# Altium footprint library 矩形板V6.0(可制造).PcbLib: 35 footprints (part 2 of 3)
Each footprint in its own frame and in the unit in brackets; x right, y up, seen from the top. Pads: shape width x height; smd on the part's side, far side on the other; paste and mask are expansions set on the pad; w line width, h text height; cw(c..) or ccw(c..) is an arc to the next point about the centre after c.
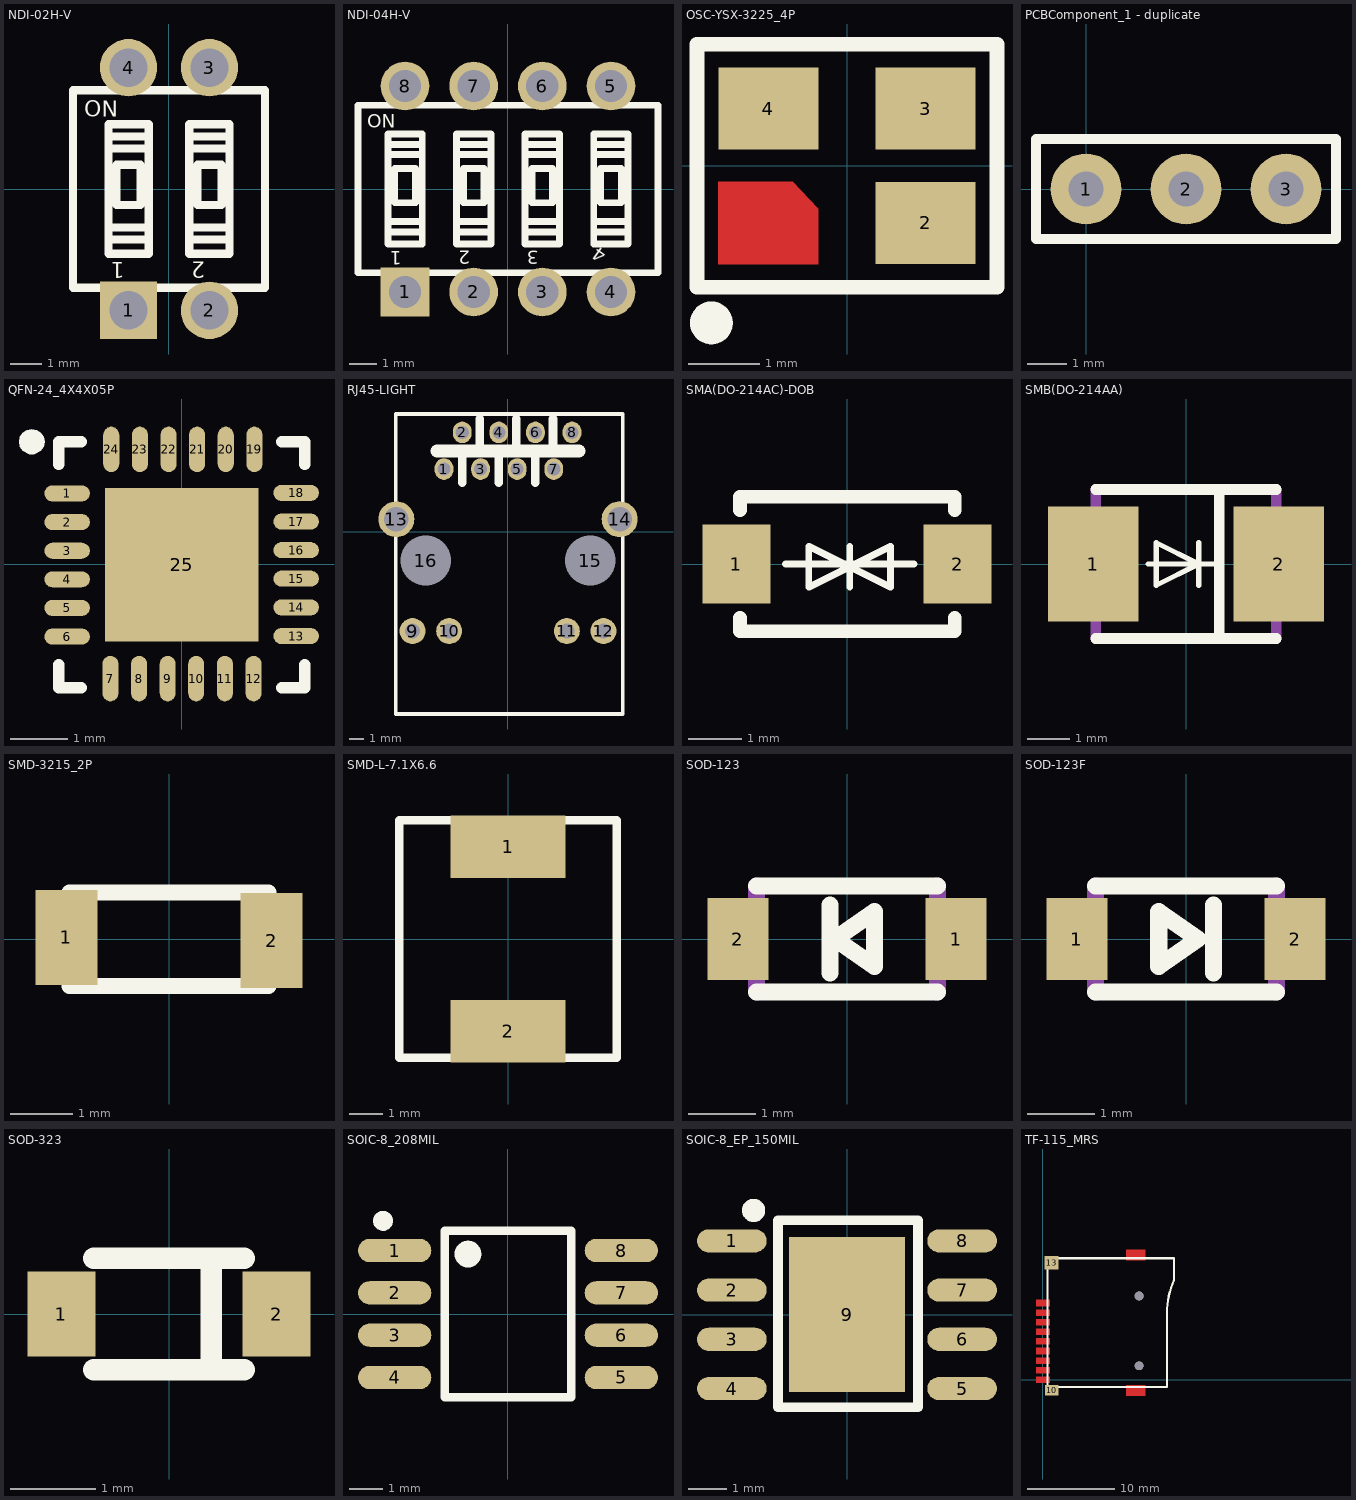
[diagram p1: the footprints below, top view; thin cyan lines are the x and y axes]

## NDI-02H-V [mm]
pads (4):
  rect 1.8x1.8 hole 1.2: 1(-1.27,-3.81)
  round 1.8 hole 1.2: 2(1.27,-3.81) 3(1.27,3.81) 4(-1.27,3.81)
Top Overlay:
  lines w0.254: -1.905,-1.587 -0.635,-1.587 ; -1.905,-1.206 -0.635,-1.206 ; -1.905,1.27 -0.635,1.27 ; -1.905,1.651 -0.635,1.651 ; 0.635,-1.587 1.905,-1.587 ; 0.635,-1.206 1.905,-1.206 ; 0.635,1.27 1.905,1.27 ; 0.635,1.651 1.905,1.651 ; -3.01,-3.1 -3.01,3.1 3.01,3.1 3.01,-3.1 -3.01,-3.1 ; -1.905,-2.032 -1.905,2.032 -0.635,2.032 -0.635,-2.032 -1.905,-2.032 ; -1.651,-0.508 -1.651,0.762 -0.889,0.762 -0.889,-0.508 -1.651,-0.508 ; 0.635,-2.032 0.635,2.032 1.905,2.032 1.905,-2.032 0.635,-2.032 ; 0.889,-0.508 0.889,0.762 1.651,0.762 1.651,-0.508 0.889,-0.508
  text "2" at 1.143,-2.29 h0.5
  text "1" at -1.397,-2.308 h0.5
  text "ON" at -2.667,2.272 h0.5

## NDI-04H-V [mm]
pads (8):
  rect 1.8x1.8 hole 1.2: 1(-3.81,-3.81)
  round 1.8 hole 1.2: 2(-1.27,-3.81) 3(1.27,-3.81) 4(3.81,-3.81) 5(3.81,3.81) 6(1.27,3.81) 7(-1.27,3.81) 8(-3.81,3.81)
Top Overlay:
  lines w0.254: -4.445,-1.587 -3.175,-1.587 ; -4.445,-1.206 -3.175,-1.206 ; -4.445,1.27 -3.175,1.27 ; -4.445,1.651 -3.175,1.651 ; -1.905,-1.587 -0.635,-1.587 ; -1.905,-1.206 -0.635,-1.206 ; -1.905,1.27 -0.635,1.27 ; -1.905,1.651 -0.635,1.651 ; 0.635,-1.587 1.905,-1.587 ; 0.635,-1.206 1.905,-1.206 ; 0.635,1.27 1.905,1.27 ; 0.635,1.651 1.905,1.651 ; 3.175,-1.587 4.445,-1.587 ; 3.175,-1.206 4.445,-1.206 ; 3.175,1.27 4.445,1.27 ; 3.175,1.651 4.445,1.651 ; -5.55,-3.1 -5.55,3.1 5.55,3.1 5.55,-3.1 -5.55,-3.1 ; -4.445,-2.032 -4.445,2.032 -3.175,2.032 -3.175,-2.032 -4.445,-2.032 ; -4.191,-0.508 -4.191,0.762 -3.429,0.762 -3.429,-0.508 -4.191,-0.508 ; -1.905,-2.032 -1.905,2.032 -0.635,2.032 -0.635,-2.032 -1.905,-2.032 ; -1.651,-0.508 -1.651,0.762 -0.889,0.762 -0.889,-0.508 -1.651,-0.508 ; 0.635,-2.032 0.635,2.032 1.905,2.032 1.905,-2.032 0.635,-2.032 ; 0.889,-0.508 0.889,0.762 1.651,0.762 1.651,-0.508 0.889,-0.508 ; 3.175,-2.032 3.175,2.032 4.445,2.032 4.445,-2.032 3.175,-2.032 ; 3.429,-0.508 3.429,0.762 4.191,0.762 4.191,-0.508 3.429,-0.508
  text "4" at 3.7,-2.353 h0.5
  text "3" at 1.143,-2.29 h0.5
  text "2" at -1.397,-2.29 h0.5
  text "1" at -3.937,-2.308 h0.5
  text "ON" at -5.207,2.272 h0.5

## OSC-YSX-3225_4P [mm]
pads (4):
  round 0 smd: 1(-1.1,-0.8)
  rect 1.4x1.15 smd: 2(1.1,-0.8) 3(1.1,0.8) 4(-1.1,0.8)
Top Layer:
  region: -1.8,-0.225 -0.762,-0.225 -0.4,-0.604 -0.4,-1.375 -1.8,-1.375
Top Overlay:
  lines w0.203: -2.1,-1.7 -2.1,1.7 2.1,1.7 2.1,-1.7 -2.1,-1.7
  lines w0.3: -1.9,-2.05 ccw(c-1.899,-2.2) -1.897,-2.05
Top Paste:
  region: -1.8,-0.225 -0.762,-0.225 -0.4,-0.604 -0.4,-1.375 -1.8,-1.375
Top Solder:
  region: -1.8,-0.225 -0.762,-0.225 -0.4,-0.604 -0.4,-1.375 -1.8,-1.375

## PCBComponent_1 - duplicate [mm]
pads (3):
  round 1.8 hole 0.9: 1(0,0) 2(2.54,0) 3(5.08,0)
Top Overlay:
  lines w0.254: -1.27,-1.27 -1.27,1.27 6.35,1.27 6.35,-1.27 -1.27,-1.27

## QFN-24_4X4X05P [mm]
pads (25):
  oval 0.796x0.28 smd: 1(-2,1.232) 2(-2,0.732) 3(-2,0.231) 4(-2,-0.267) 5(-2,-0.767) 6(-2,-1.267) 13(2,-1.257) 14(2,-0.757) 15(2,-0.257) 16(2,0.241) 17(2,0.742) 18(2,1.242)
  oval 0.28x0.796 smd: 7(-1.245,-2) 8(-0.744,-2) 9(-0.244,-2) 10(0.254,-2) 11(0.754,-2) 12(1.255,-2) 19(1.27,2) 20(0.77,2) 21(0.269,2) 22(-0.229,2) 23(-0.729,2) 24(-1.229,2)
  rect 2.68x2.68 smd: 25(0,-0.013)
Top Overlay:
  region: -2.616,1.915 -2.573,1.915 -2.46,1.976 -2.412,2.048 -2.395,2.134 -2.412,2.219 -2.46,2.291 -2.532,2.34 -2.617,2.356 -2.703,2.34 -2.775,2.291 -2.823,2.219 -2.84,2.134 -2.823,2.048 -2.775,1.976 -2.662,1.915 -2.619,1.915
  lines w0.2: -2.15,-1.763 -2.15,-2.163 -1.75,-2.163 ; -2.15,1.737 -2.15,2.137 -1.75,2.137 ; 1.75,-2.163 2.15,-2.163 2.15,-1.763 ; 1.75,2.137 2.15,2.137 2.15,1.737

## RJ45-LIGHT [mm]
pads (16):
  oval 1.3x1.499 hole 0.914: 1(-4.445,4.355) 2(-3.175,6.895) 3(-1.905,4.355) 4(-0.635,6.895) 5(0.635,4.355) 6(1.905,6.895) 7(3.175,4.355) 8(4.445,6.895)
  round 1.8 hole 1.04: 9(-6.625,-6.895) 10(-4.085,-6.895) 11(4.085,-6.895) 12(6.625,-6.895)
  round 2.5 hole 1.702: 13(-7.75,0.875) 14(7.75,0.875)
  round 2 hole 3.5 unplated: 15(5.715,-1.995) 16(-5.715,-1.995)
Top Overlay:
  lines w0.254: -7.785,-12.652 7.963,-12.652 7.963,8.176 -7.785,8.176 -7.785,-12.652
  lines w0.6: -3.18,3.416 -3.18,5.301 ; -1.956,5.946 -1.956,7.846 ; -0.64,3.416 -0.64,5.301 ; 0.584,5.946 0.584,7.846 ; 1.9,3.416 1.9,5.301 ; 3.124,5.946 3.124,7.846
  lines w0.9: -4.93,5.616 4.938,5.616

## SMA(DO-214AC)-DOB [mil]
pads (2):
  rect 50x57.9 smd: 1(-81,0) 2(81,0)
Top Overlay:
  lines w5: -45,0 49,0 ; 2,-17 2,-2 ; 2,13 2,-2 ; 2,-2 32,-17 32,-2 32,13 2,-2 ; 2,-2 -28,13 -28,-2 -28,-17 2,-2
  lines w10: -78.4,-39.37 -78.4,-49.2 79,-49.2 79,-39.37 ; -78.4,39.37 -78.4,49.2 79,49.2 79,39.37

## SMB(DO-214AA) [mil]
pads (2):
  rect 85x108 smd: 1(-87,0) 2(87,0)
Top Overlay:
  lines w5: -35.43,0 32.13,0 ; 12.13,-20 12.13,20 12.13,0 ; 12.13,0 -27.87,-20 -27.87,20 12.13,0
  lines w10: -85,-70 85,-70 ; -85,70 85,70 ; 31.19,-70 31.19,70
Mechanical 15:
  lines w10: -85,-70 -85,70 ; -85,-40 -110,-40 -110,40 -85,40 ; 85,-70 85,70 ; 85,-40 110,-40 110,40 85,40

## SMD-3215_2P [mm]
pads (2):
  rect 1x1.524 smd: 1(-1.648,0.024) 2(1.648,-0.024)
Top Overlay:
  lines w0.254: -1.599,-0.753 -1.599,0.747 1.601,0.747 1.601,-0.753 -1.599,-0.753

## SMD-L-7.1X6.6 [mm]
pads (2):
  rect 3.5x1.9 smd: 1(0,2.8) 2(0,-2.8)
Top Overlay:
  lines w0.254: -3.3,-3.6 -3.3,3.6 3.3,3.6 3.3,-3.6 -3.3,-3.6

## SOD-123 [mil]
pads (2):
  rect 35.8x48 smd: 1(64,0) 2(-64,0)
Top Overlay:
  lines w10: -53,-31 53,-31 ; -53,31 53,31 ; -10,-20 -10,20 ; -7,0 16,-16 16,16 -7,0
Mechanical 15:
  lines w10: -53,-31 -53,31 ; 53,-31 53,31

## SOD-123F [mil]
pads (2):
  rect 35.8x48 smd: 1(-64,0) 2(64,0)
Top Overlay:
  lines w10: -53,-31 53,-31 ; -53,31 53,31 ; 16,-20 16,20 ; -16,-16 -16,16 7,0 -16,-16
Mechanical 15:
  lines w10: -53,-31 -53,31 ; 53,-31 53,31

## SOD-323 [mm]
pads (2):
  rect 0.8x1 smd: 1(-1.27,0) 2(1.27,0)
Top Overlay:
  lines w0.254: -0.889,-0.66 -0.508,-0.66 0.889,-0.66 ; -0.889,0.661 -0.508,0.661 0.889,0.661 ; 0.5,-0.621 0.5,0.6

## SOIC-8_208MIL [mm]
pads (8):
  oval 2.2x0.7 smd: 1(-3.4,1.905) 2(-3.4,0.635) 3(-3.4,-0.635) 4(-3.4,-1.905) 5(3.4,-1.905) 6(3.4,-0.635) 7(3.4,0.635) 8(3.4,1.905)
Top Overlay:
  lines w0.254: -1.9,-2.5 1.9,-2.5 1.9,2.5 -1.9,2.5 -1.9,-2.5
  lines w0.3: -3.599,2.794 cw(c-3.749,2.795) -3.599,2.797
  lines w0.4: -1.001,1.796 cw(c-1.201,1.798) -1.001,1.801

## SOIC-8_EP_150MIL [mm]
pads (9):
  oval 1.798x0.6 smd: 1(-2.972,1.905) 2(-2.972,0.635) 3(-2.972,-0.635) 4(-2.972,-1.905) 5(2.972,-1.905) 6(2.972,-0.635) 7(2.972,0.635) 8(2.972,1.905)
  rect 3x4 smd: 9(0,0)
Top Overlay:
  lines w0.254: 1.829,2.413 1.829,-2.388 -1.778,-2.388 -1.778,2.438 1.829,2.438
  lines w0.3: -2.261,2.69 cw(c-2.411,2.691) -2.261,2.692

## TF-115_MRS [mm]
pads (15):
  round 0 smd: 1(0,8.8) 2(0,7.7) 3(0,6.6) 4(0,5.5) 5(0,4.4) 6(0,3.3) 7(0,2.2) 8(0,1.1) 9(0,0) 11(10.6,-1.2) 12(10.6,14.3)
  rect 1.5x1.2 smd: 10(1,-1.2)
  rect 1.6x1.5 smd: 13(1,13.4)
  round 1 hole 1 unplated: ""(11,1.6) ""(11,9.6)
Top Layer:
  region: 9.499,-1.801 9.499,-0.6 11.699,-0.6 11.699,-1.801
  region: 9.499,13.701 9.499,14.9 11.699,14.9 11.699,13.701
  region: -0.8,8.451 -0.8,9.149 0.8,9.149 0.8,8.451
  region: -0.8,7.351 -0.8,8.049 0.8,8.049 0.8,7.351
  region: -0.8,6.251 -0.8,6.949 0.8,6.949 0.8,6.251
  region: -0.8,5.151 -0.8,5.85 0.8,5.85 0.8,5.151
  region: -0.8,4.049 -0.8,4.75 0.8,4.75 0.8,4.049
  region: -0.8,2.949 -0.8,3.65 0.8,3.65 0.8,2.949
  region: -0.8,1.849 -0.8,2.55 0.8,2.55 0.8,1.849
  region: -0.8,0.749 -0.8,1.45 0.8,1.45 0.8,0.749
  region: -0.8,-0.351 -0.8,0.351 0.8,0.351 0.8,-0.351
Top Overlay:
  lines w0.254: 14.2,-0.825 0.5,-0.825 0.5,13.925 15,13.925 15,11.43 ccw(c23.856,7.537) 14.2,8.128 14.2,-0.762
Top Paste:
  region: 9.499,-1.801 9.499,-0.6 11.699,-0.6 11.699,-1.801
  region: 9.499,13.701 9.499,14.9 11.699,14.9 11.699,13.701
  region: -0.8,8.451 -0.8,9.149 0.8,9.149 0.8,8.451
  region: -0.8,7.351 -0.8,8.049 0.8,8.049 0.8,7.351
  region: -0.8,6.251 -0.8,6.949 0.8,6.949 0.8,6.251
  region: -0.8,5.151 -0.8,5.85 0.8,5.85 0.8,5.151
  region: -0.8,4.049 -0.8,4.75 0.8,4.75 0.8,4.049
  region: -0.8,2.949 -0.8,3.65 0.8,3.65 0.8,2.949
  region: -0.8,1.849 -0.8,2.55 0.8,2.55 0.8,1.849
  region: -0.8,0.749 -0.8,1.45 0.8,1.45 0.8,0.749
  region: -0.8,-0.351 -0.8,0.351 0.8,0.351 0.8,-0.351
Top Solder:
  region: 9.499,-1.801 9.499,-0.6 11.699,-0.6 11.699,-1.801
  region: 9.499,13.701 9.499,14.9 11.699,14.9 11.699,13.701
  region: -0.8,8.451 -0.8,9.149 0.8,9.149 0.8,8.451
  region: -0.8,7.351 -0.8,8.049 0.8,8.049 0.8,7.351
  region: -0.8,6.251 -0.8,6.949 0.8,6.949 0.8,6.251
  region: -0.8,5.151 -0.8,5.85 0.8,5.85 0.8,5.151
  region: -0.8,4.049 -0.8,4.75 0.8,4.75 0.8,4.049
  region: -0.8,2.949 -0.8,3.65 0.8,3.65 0.8,2.949
  region: -0.8,1.849 -0.8,2.55 0.8,2.55 0.8,1.849
  region: -0.8,0.749 -0.8,1.45 0.8,1.45 0.8,0.749
  region: -0.8,-0.351 -0.8,0.351 0.8,0.351 0.8,-0.351